# EAGLE library part DS275 (library Mes_uC)
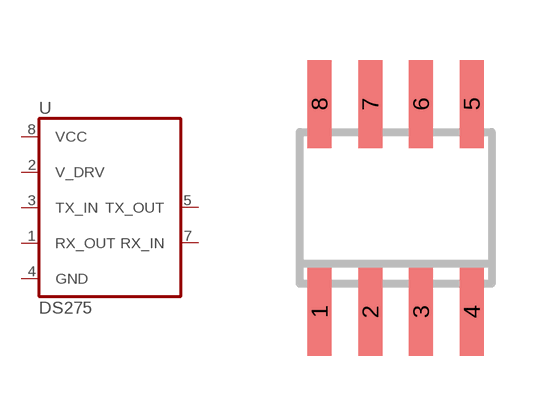
[diagram p5: symbol with the pads of SO08; footprint SO08]

Designator prefix U

## DS275SO  [SO08]
1  RX_OUT  out
2  V_DRV  in
3  TX_IN  in
4  GND  pwr
5  TX_OUT  out
7  RX_IN  in
8  VCC  pwr

## Footprint SO08 (pad centres in mm)
smd 0.6 x 2.2: 1 -1.905,-2.6; 2 -0.635,-2.6; 3 0.635,-2.6; 4 1.905,-2.6; 5 1.905,2.6; 6 0.635,2.6; 7 -0.635,2.6; 8 -1.905,2.6